# Altium footprint library Diode_Fat_1.PcbLib: 1 footprints
Each footprint in its own frame and in the unit in brackets; x right, y up, seen from the top. Pads: shape width x height; smd on the part's side, far side on the other; paste and mask are expansions set on the pad; w line width, h text height; cw(c..) or ccw(c..) is an arc to the next point about the centre after c.
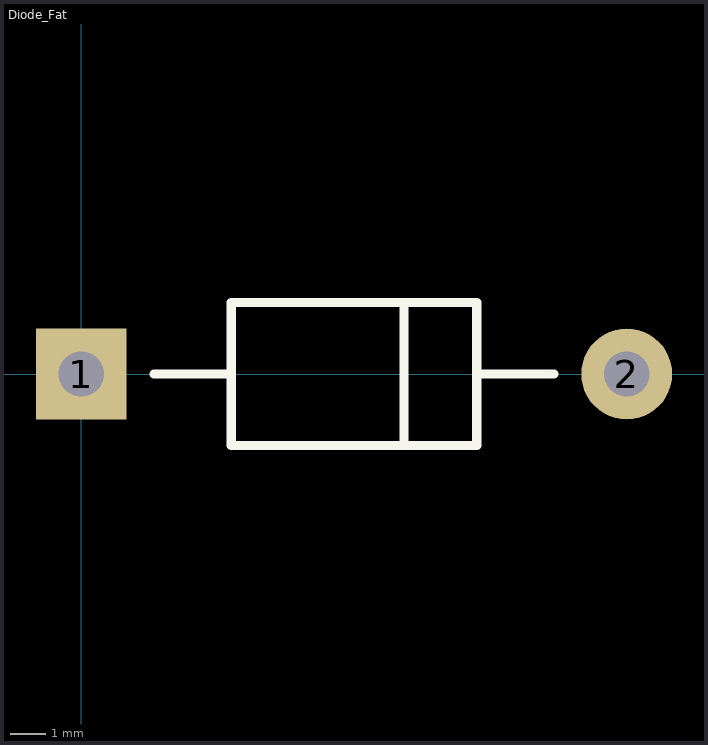
[diagram p0: the footprint, top view; thin cyan lines are the x and y axes]

## Diode_Fat [mil]
pads (2):
  rect 100x100 hole 50: 1(0,0)
  round 100 hole 50: 2(600,0)
Top Overlay:
  lines w10: 80,0 165,0 ; 355,-78.74 355,78.74 ; 435,0 520,0 ; 165,0 165,-78.74 435,-78.74 435,78.74 165,78.74 165,0